# Altium schematic symbol library STM32MP151AAB3.SchLib: 1 symbol
Pins are listed as number, name and electrical type; pins without a type are passive.

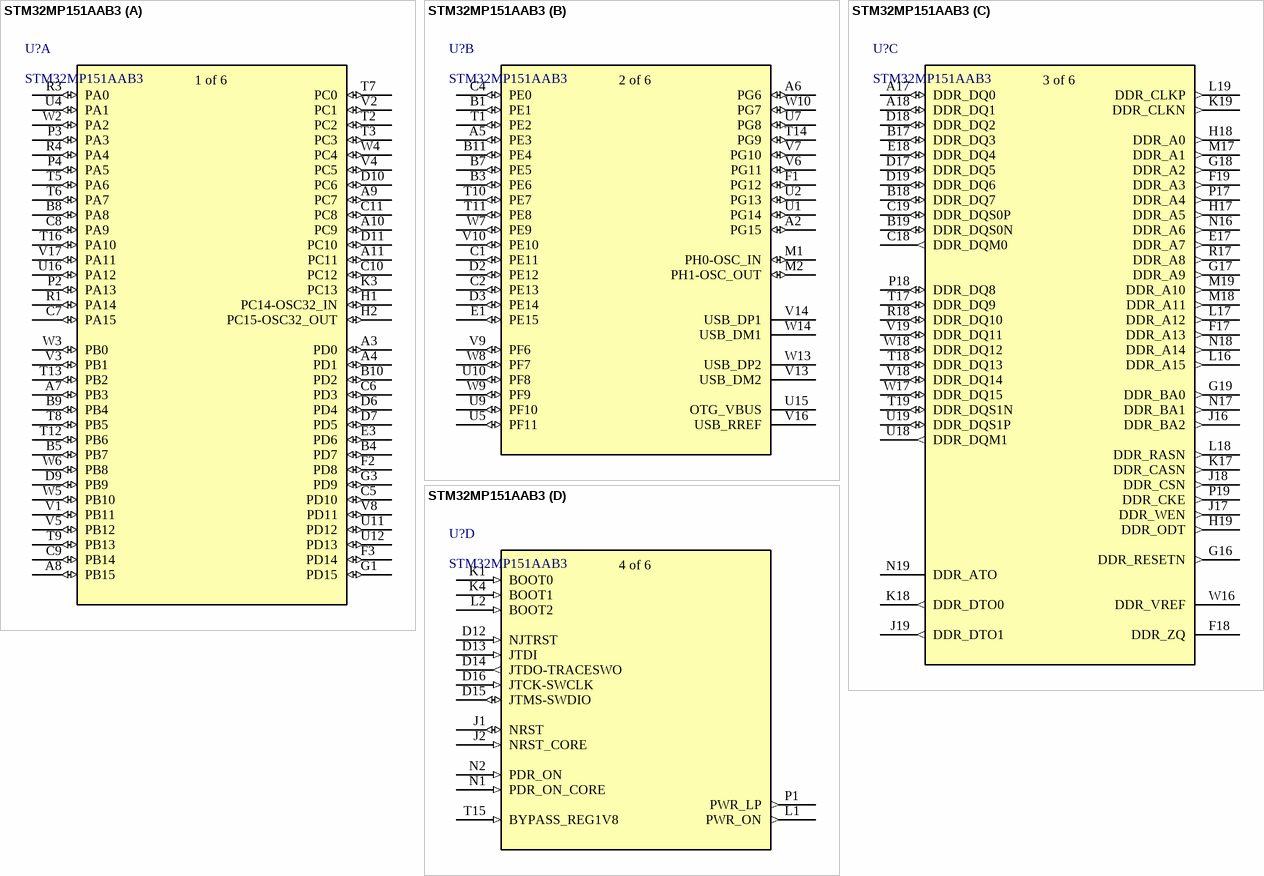
[diagram p0: symbol STM32MP151AAB3]

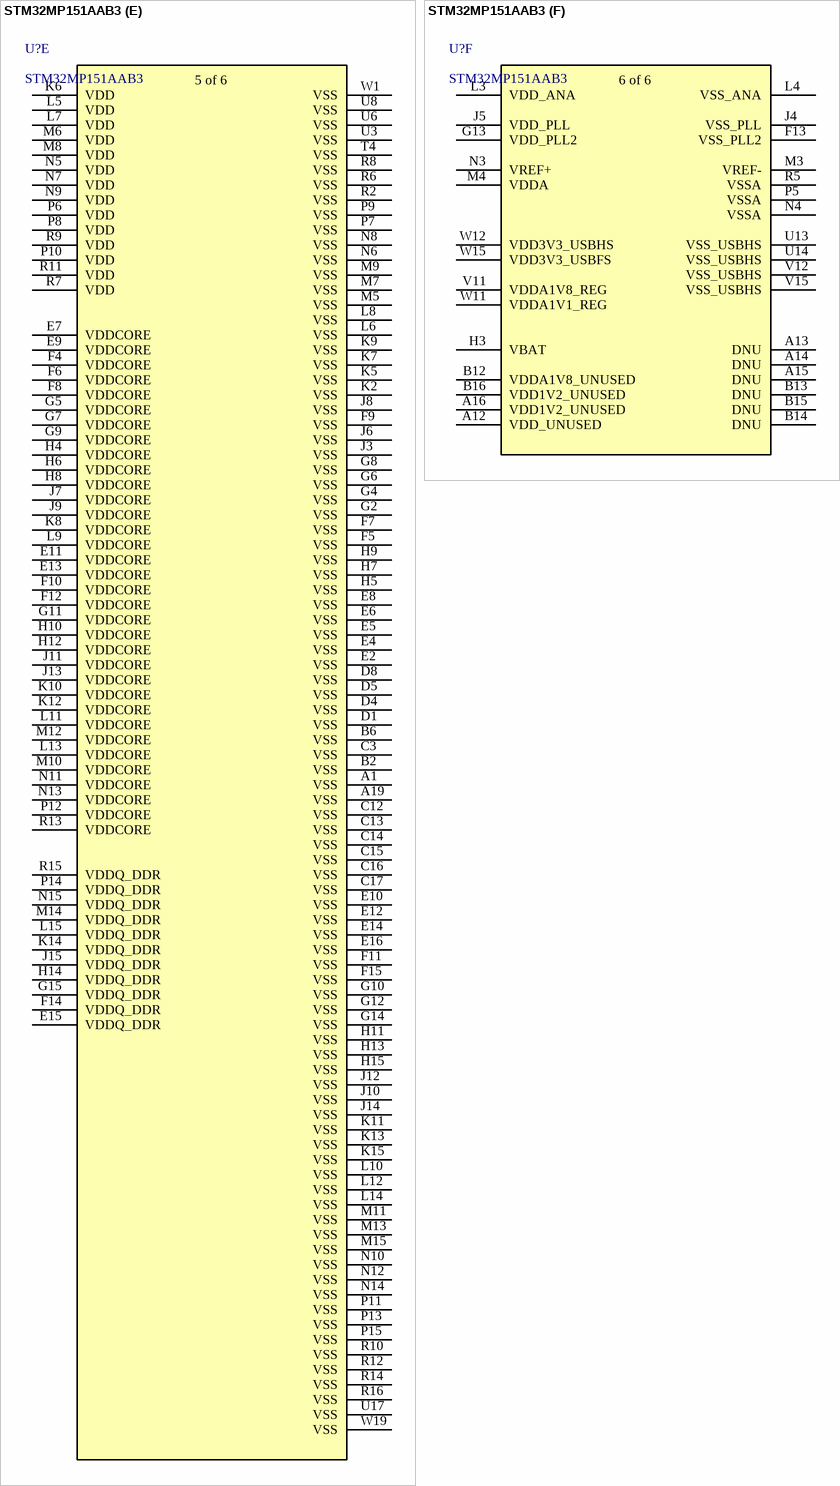
[diagram p1: symbol STM32MP151AAB3]

## STM32MP151AAB3
designator U?
Microprocessors - MPU MPU Arm Cortex-A7 650 MHz, Arm Cortex-M4 real-time coprocessor, TFT display
footprint BGA354C80P19X19_1600X1600X129 (BGA, 354-Leads, Body 16,00x16,00mmx1,29mm, Pitch 0,80mm)
part A pins: A3 PD0 (io), A4 PD1 (io), A7 PB3 (io), A8 PB15 (io), A9 PC7 (io), A10 PC9 (io), A11 PC11 (io), B4 PD7 (io), B5 PB7 (io), B8 PA8 (io), B9 PB4 (io), B10 PD2 (io), C5 PD10 (io), C6 PD3 (io), C7 PA15 (io), C8 PA9 (io), C9 PB14 (io), C10 PC12 (io), C11 PC8 (io), D6 PD4 (io), D7 PD5 (io), D9 PB9 (io), D10 PC6 (io), D11 PC10 (io), E3 PD6 (io), F2 PD8 (io), F3 PD14 (io), G1 PD15 (io), G3 PD9 (io), H1 PC14-OSC32_IN (io), H2 PC15-OSC32_OUT (io), K3 PC13 (io), P2 PA13 (io), P3 PA3 (io), P4 PA5 (io), R1 PA14 (io), R3 PA0 (io), R4 PA4 (io), T2 PC2 (io), T3 PC3 (io), T5 PA6 (io), T6 PA7 (io), T7 PC0 (io), T8 PB5 (io), T9 PB13 (io), T12 PB6 (io), T13 PB2 (io), T16 PA10 (io), U4 PA1 (io), U11 PD12 (io), U12 PD13 (io), U16 PA12 (io), V1 PB11 (io), V2 PC1 (io), V3 PB1 (io), V4 PC5 (io), V5 PB12 (io), V8 PD11 (io), V17 PA11 (io), W2 PA2 (io), W3 PB0 (io), W4 PC4 (io), W5 PB10 (io), W6 PB8 (io)
part B pins: A2 PG15 (io), A5 PE3 (io), A6 PG6 (io), B1 PE1 (io), B3 PE6 (io), B7 PE5 (io), B11 PE4 (io), C1 PE11 (io), C2 PE13 (io), C4 PE0 (io), D2 PE12 (io), D3 PE14 (io), E1 PE15 (io), F1 PG12 (io), M1 PH0-OSC_IN (io), M2 PH1-OSC_OUT (io), T1 PE2 (io), T10 PE7 (io), T11 PE8 (io), T14 PG9 (io), U1 PG14 (io), U2 PG13 (io), U5 PF11 (io), U7 PG8 (io), U9 PF10 (io), U10 PF8 (io), U15 OTG_VBUS, V6 PG11 (io), V7 PG10 (io), V9 PF6 (io), V10 PE10 (io), V13 USB_DM2, V14 USB_DP1, V16 USB_RREF, W7 PE9 (io), W8 PF7 (io), W9 PF9 (io), W10 PG7 (io), W13 USB_DP2, W14 USB_DM1
part C pins: A17 DDR_DQ0 (io), A18 DDR_DQ1 (io), B17 DDR_DQ3 (io), B18 DDR_DQ7 (io), B19 DDR_DQS0N (io), C18 DDR_DQM0 (out), C19 DDR_DQS0P (io), D17 DDR_DQ5 (io), D18 DDR_DQ2 (io), D19 DDR_DQ6 (io), E17 DDR_A7 (out), E18 DDR_DQ4 (io), F17 DDR_A13 (out), F18 DDR_ZQ, F19 DDR_A3 (out), G16 DDR_RESETN (out), G17 DDR_A9 (out), G18 DDR_A2 (out), G19 DDR_BA0 (out), H17 DDR_A5 (out), H18 DDR_A0 (out), H19 DDR_ODT (out), J16 DDR_BA2 (out), J17 DDR_WEN (out), J18 DDR_CSN (out), J19 DDR_DTO1 (out), K17 DDR_CASN (out), K18 DDR_DTO0 (out), K19 DDR_CLKN (out), L16 DDR_A15 (out), L17 DDR_A12 (out), L18 DDR_RASN (out), L19 DDR_CLKP (out), M17 DDR_A1 (out), M18 DDR_A11 (out), M19 DDR_A10 (out), N16 DDR_A6 (out), N17 DDR_BA1 (out), N18 DDR_A14 (out), N19 DDR_ATO, P17 DDR_A4 (out), P18 DDR_DQ8 (io), P19 DDR_CKE (out), R17 DDR_A8 (out), R18 DDR_DQ10 (io), T17 DDR_DQ9 (io), T18 DDR_DQ13 (io), T19 DDR_DQS1N (io), U18 DDR_DQM1 (out), U19 DDR_DQS1P (io), V18 DDR_DQ14 (io), V19 DDR_DQ11 (io), W16 DDR_VREF, W17 DDR_DQ15 (io), W18 DDR_DQ12 (io)
part D pins: D12 NJTRST (in), D13 JTDI (in), D14 JTDO-TRACESWO (out), D15 JTMS-SWDIO (io), D16 JTCK-SWCLK (in), J1 NRST (io), J2 NRST_CORE (in), K1 BOOT0 (in), K4 BOOT1 (in), L1 PWR_ON (out), L2 BOOT2 (in), N1 PDR_ON_CORE (in), N2 PDR_ON (in), P1 PWR_LP (out), T15 BYPASS_REG1V8 (in)
part E pins: A1 VSS (power), A19 VSS (power), B2 VSS (power), B6 VSS (power), C3 VSS (power), C12 VSS (power), C13 VSS (power), C14 VSS (power), C15 VSS (power), C16 VSS (power), C17 VSS (power), D1 VSS (power), D4 VSS (power), D5 VSS (power), D8 VSS (power), E2 VSS (power), E4 VSS (power), E5 VSS (power), E6 VSS (power), E7 VDDCORE (power), E8 VSS (power), E9 VDDCORE (power), E10 VSS (power), E11 VDDCORE (power), E12 VSS (power), E13 VDDCORE (power), E14 VSS (power), E15 VDDQ_DDR (power), E16 VSS (power), F4 VDDCORE (power), F5 VSS (power), F6 VDDCORE (power), F7 VSS (power), F8 VDDCORE (power), F9 VSS (power), F10 VDDCORE (power), F11 VSS (power), F12 VDDCORE (power), F14 VDDQ_DDR (power), F15 VSS (power), G2 VSS (power), G4 VSS (power), G5 VDDCORE (power), G6 VSS (power), G7 VDDCORE (power), G8 VSS (power), G9 VDDCORE (power), G10 VSS (power), G11 VDDCORE (power), G12 VSS (power), G14 VSS (power), G15 VDDQ_DDR (power), H4 VDDCORE (power), H5 VSS (power), H6 VDDCORE (power), H7 VSS (power), H8 VDDCORE (power), H9 VSS (power), H10 VDDCORE (power), H11 VSS (power), H12 VDDCORE (power), H13 VSS (power), H14 VDDQ_DDR (power), H15 VSS (power), J3 VSS (power), J6 VSS (power), J7 VDDCORE (power), J8 VSS (power), J9 VDDCORE (power), J10 VSS (power), J11 VDDCORE (power), J12 VSS (power), J13 VDDCORE (power), J14 VSS (power), J15 VDDQ_DDR (power), K2 VSS (power), K5 VSS (power), K6 VDD (power), K7 VSS (power), K8 VDDCORE (power), K9 VSS (power), K10 VDDCORE (power), K11 VSS (power), K12 VDDCORE (power), K13 VSS (power), K14 VDDQ_DDR (power), K15 VSS (power), L5 VDD (power), L6 VSS (power), L7 VDD (power), L8 VSS (power), L9 VDDCORE (power), L10 VSS (power), L11 VDDCORE (power), L12 VSS (power), L13 VDDCORE (power), L14 VSS (power), L15 VDDQ_DDR (power), M5 VSS (power), M6 VDD (power), M7 VSS (power), M8 VDD (power), M9 VSS (power), M10 VDDCORE (power), M11 VSS (power), M12 VDDCORE (power), M13 VSS (power), M14 VDDQ_DDR (power), M15 VSS (power), N5 VDD (power), N6 VSS (power), N7 VDD (power), N8 VSS (power), N9 VDD (power), N10 VSS (power), N11 VDDCORE (power), N12 VSS (power), N13 VDDCORE (power), N14 VSS (power), N15 VDDQ_DDR (power), P6 VDD (power), P7 VSS (power), P8 VDD (power), P9 VSS (power), P10 VDD (power), P11 VSS (power), P12 VDDCORE (power), P13 VSS (power), P14 VDDQ_DDR (power), P15 VSS (power), R2 VSS (power), R6 VSS (power), R7 VDD (power), R8 VSS (power), R9 VDD (power), R10 VSS (power), R11 VDD (power), R12 VSS (power), R13 VDDCORE (power), R14 VSS (power), R15 VDDQ_DDR (power), R16 VSS (power), T4 VSS (power), U3 VSS (power), U6 VSS (power), U8 VSS (power), U17 VSS (power), W1 VSS (power), W19 VSS (power)
part F pins: A12 VDD_UNUSED (power), A13 DNU, A14 DNU, A15 DNU, A16 VDD1V2_UNUSED (power), B12 VDDA1V8_UNUSED (power), B13 DNU, B14 DNU, B15 DNU, B16 VDD1V2_UNUSED (power), F13 VSS_PLL2 (power), G13 VDD_PLL2 (power), H3 VBAT (power), J4 VSS_PLL (power), J5 VDD_PLL (power), L3 VDD_ANA (power), L4 VSS_ANA (power), M3 VREF- (power), M4 VDDA (power), N3 VREF+ (power), N4 VSSA (power), P5 VSSA (power), R5 VSSA (power), U13 VSS_USBHS (power), U14 VSS_USBHS (power), V11 VDDA1V8_REG (power), V12 VSS_USBHS (power), V15 VSS_USBHS (power), W11 VDDA1V1_REG (power), W12 VDD3V3_USBHS (power), W15 VDD3V3_USBFS (power)
part A text: 1 of 6
part B text: 2 of 6
part C text: 3 of 6
part D text: 4 of 6
part E text: 5 of 6
part F text: 6 of 6